# EAGLE library part USB-A-STACKED (library rover12)
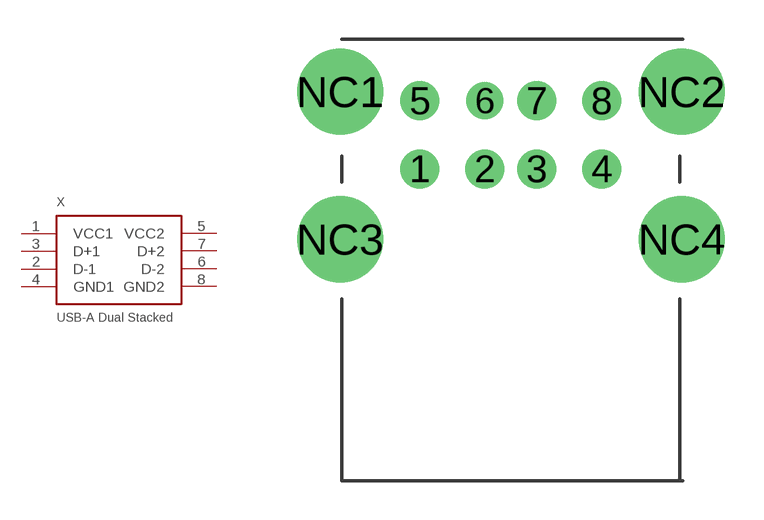
[diagram p7: symbol with the pads of USB-A-STACKED; footprint USB-A-STACKED]

Designator prefix X

## USB-A-STACKED  [USB-A-STACKED]
1  VCC1  pwr
2  D-1
3  D+1
4  GND1  pwr
5  VCC2  pwr
6  D-2
7  D+2
8  GND2  pwr

## Footprint USB-A-STACKED (pad centres in mm)
drill 0.92 pad 1.5: 1 0,0; 2 2.5,0; 3 4.5,0; 4 7,0; 5 0,2.62; 7 4.5,2.62; 8 7,2.62
drill 0.92: 6 2.5,2.62
drill 2.3: NC1 -3.07,2.97; NC2 10.07,2.97; NC3 -3.07,-2.71; NC4 10.07,-2.71